# Altium schematic symbol library WeatherStation.SchLib: 10 symbols
Pins are listed as number, name and electrical type; pins without a type are passive.

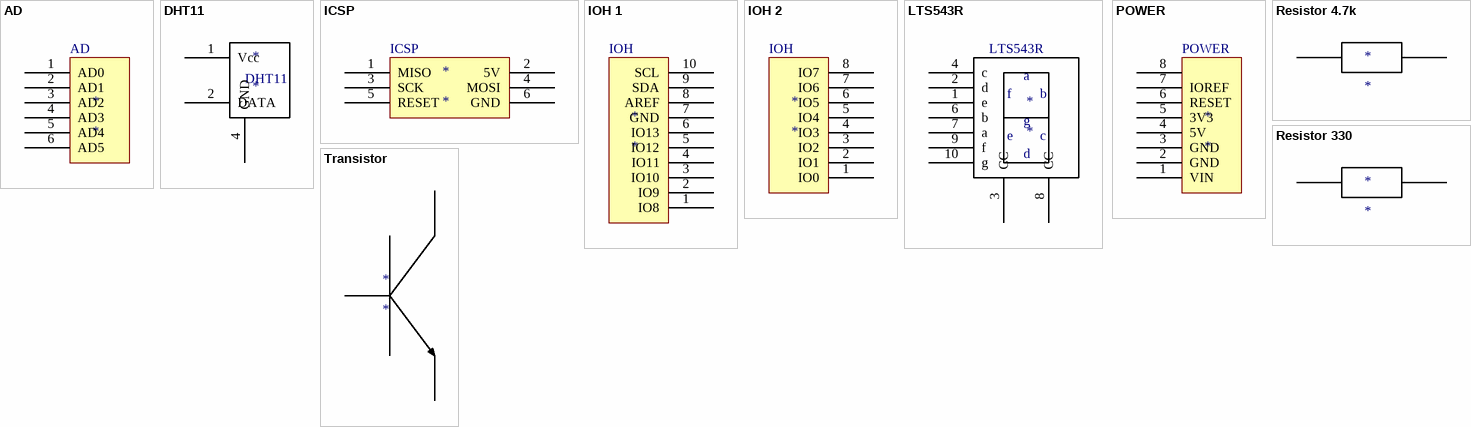
[diagram p0: symbols AD to Transistor]

## AD
designator *
footprint AD
pins: 1 AD0, 2 AD1, 3 AD2, 4 AD3, 5 AD4, 6 AD5

## DHT11
designator *
footprint DHT11
pins: 1 Vcc, 2 DATA, 4 GND

## ICSP
designator *
footprint ICSP
pins: 1 MISO, 2 5V, 3 SCK, 4 MOSI, 5 RESET, 6 GND

## IOH 1
designator *
footprint IOH 1
pins: 1 IO8, 2 IO9, 3 IO10, 4 IO11, 5 IO12, 6 IO13, 7 GND, 8 AREF, 9 SDA, 10 SCL
text: IOH

## IOH 2
designator *
footprint IOH 2
pins: 1 IO0, 2 IO1, 3 IO2, 4 IO3, 5 IO4, 6 IO5, 7 IO6, 8 IO7
text: IOH

## LTS543R
designator *
footprint 7SEGMENT
pins: 1 e, 2 d, 3 CC, 4 c, 6 b, 7 a, 8 CC, 9 f, 10 g

## POWER
designator *
footprint POWER
pins: 1 VIN, 2 GND, 3 GND, 4 5V, 5 3V3, 6 RESET, 7 IOREF, 8

## Resistor 4.7k
designator *
footprint RESISTOR
pins: 1, 2

## Resistor 330
designator *
footprint RESISTOR
pins: 1, 2

## Transistor
designator *
footprint TRANSISTOR
pins: 5, 6, 7